# EAGLE library part TE_2X16_HOUSING (library TE_CONNECTOR)
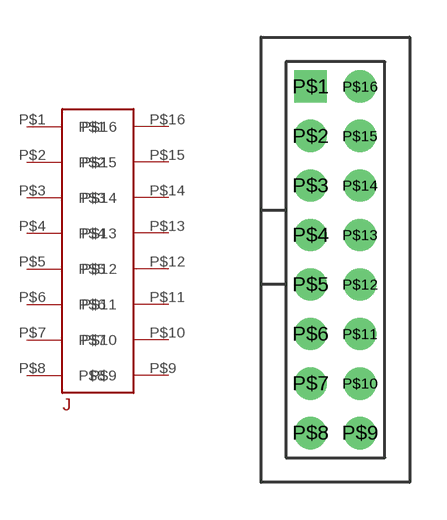
[diagram p1: symbol with the pads of TE_2X16_HOUSING; footprint TE_2X16_HOUSING]

Designator prefix J

## TE_2X16_HOUSING  [TE_2X16_HOUSING]
P$1  P$1
P$2  P$2
P$3  P$3
P$4  P$4
P$5  P$5
P$6  P$6
P$7  P$7
P$8  P$8
P$9  P$9
P$10  P$10
P$11  P$11
P$12  P$12
P$13  P$13
P$14  P$14
P$15  P$15
P$16  P$16

## Footprint TE_2X16_HOUSING (pad centres in mm)
drill 0.8 square: P$1 -1,7
drill 0.8: P$2 -1,5; P$3 -1,3; P$4 -1,1; P$5 -1,-1; P$6 -1,-3; P$7 -1,-5; P$8 -1,-7; P$9 1,-7; P$10 1,-5; P$11 1,-3; P$12 1,-1; P$13 1,1; P$14 1,3; P$15 1,5; P$16 1,7